# Altium integrated library Linear Technology Power Management Power-Over-Ethernet (PoE) Interface Controllers.IntLib: 174 symbols (part 16 of 16)
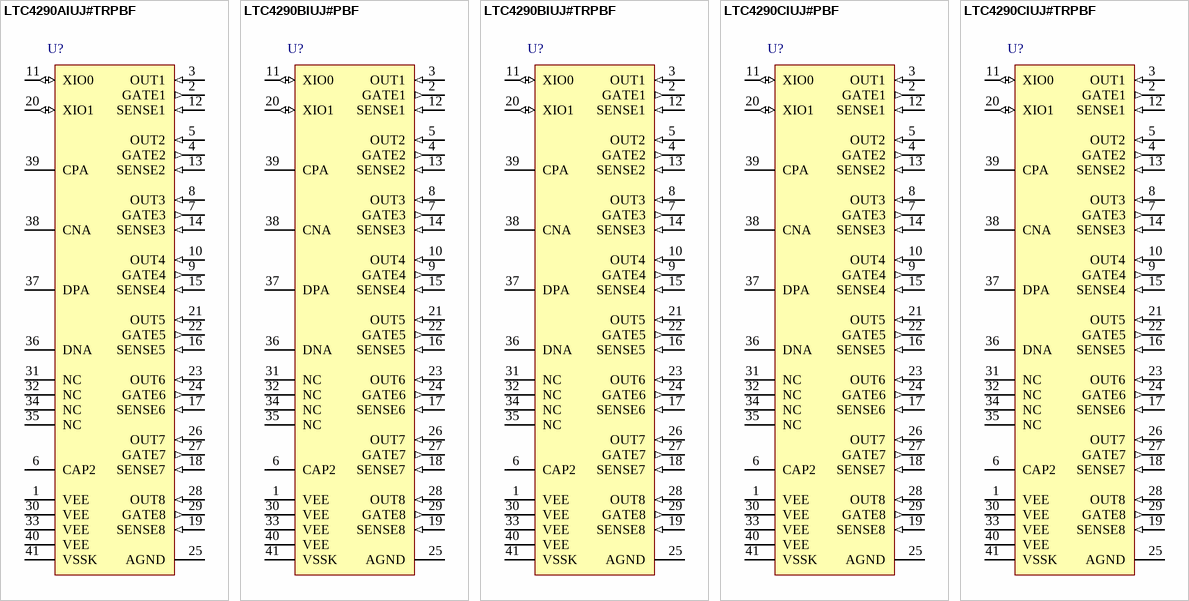
[diagram p23: symbols LTC4290AIUJ#TRPBF to LTC4290CIUJ#TRPBF]

## LTC4290BIUJ#PBF
designator U?
8-Port PoE / PoE+ / LTPoE++ PSE Controller, 40-pin QFN (UJ-40), -40 to 85 degC, Pb-Free; Manufacturer: Linear Technology; PartNumber: LTC4290BIUJ#PBF; Channels(#): 8; Extended Temp: I; I2C Interface: yes; Max Power(W): 25.5; PoE Type: 1, 2; DatasheetVersion: Rev. A; PackageVersion: Rev. Ø, 06/2010; PackageReference: UJ-40; PackageDescription: 40-Pin Plastic QFN, Body 6 x 6 mm, Pitch 0.5 mm; Supplier 1: Digi-Key; Supplier Part Number 1: LTC4290BIUJ#PBF-ND; Supplier 2: Farnell; Supplier Part Number 2: 2215169; Supplier 3: Newark; Supplier Part Number 3: 44W6835; PSE/PD: PSE; RoHS: TRUE; Mounting Technology: Surface Mount; ComponentLink1Description: Manufacturer URL; ComponentLink1URL: http://www.linear.com/; ComponentLink2Description: Datasheet; ComponentLink2URL: http://cds.linear.com/docs/en/datasheet/429071fa.pdf; ComponentLink3Description: Package Specification; ComponentLink3URL: http://cds.linear.com/docs/en/packaging/QFN_40_05-08-1728.pdf
footprint LT-UJ-40_N (QFN, 40-Leads, Body 6.1x6.1mm, Pitch 0.5mm, Thermal Pad 4.42x4.42mm, IPC Medium Density)
footprint LT-UJ-40_L (QFN, 40-Leads, Body 6.1x6.1mm, Pitch 0.5mm, Thermal Pad 4.42x4.42mm, IPC High Density)
footprint LT-UJ-40_M (QFN, 40-Leads, Body 6.1x6.1mm, Pitch 0.5mm, Thermal Pad 4.42x4.42mm, IPC Low Density)
pins: 1 VEE (power) "Main PoE Supply Input. Connect to a -45V to -57V supply, relative to AGND. Voltage depends on PSE type (Type 1, Type 2 or LTPoE++).", 2 GATE1 (out) "Port 1 Gate Drive. GATE2 should be connected to the gate of the external MOSFET for port 1. When the MOSFET is turned on, the gate voltage is driven to 12V (typ) above VEE. During a current limit condition, the voltage at (See Datasheet)", 3 OUT1 (in) "Port 1 Output Voltage Monitor. OUT1 should be connected to the output port. A current limit foldback circuit limits the power dissipation in the external MOSFET by reducing the current limit threshold when the (See Datasheet)", 4 GATE2 (out) "Port 2 Gate Drive. GATE2 should be connected to the gate of the external MOSFET for port 2. When the MOSFET is turned on, the gate voltage is driven to 12V (typ) above VEE. During a current limit condition, the voltage at (See Datasheet)", 5 OUT2 (in) "Port 2 Output Voltage Monitor. OUT2 should be connected to the output port. A current limit foldback circuit limits the power dissipation in the external MOSFET by reducing the current limit threshold when the (See Datasheet)", 6 CAP2 "Analog Internal 4.3V Power Supply Bypass Capacitor. Connect 0.1uF ceramic cap to VEE.", 7 GATE3 (out) "Port 3 Gate Drive. GATE3 should be connected to the gate of the external MOSFET for port 3. When the MOSFET is turned on, the gate voltage is driven to 12V (typ) above VEE. During a current limit condition, the voltage at (See Datasheet)", 8 OUT3 (in) "Port 3 Output Voltage Monitor. OUT3 should be connected to the output port. A current limit foldback circuit limits the power dissipation in the external MOSFET by reducing the current limit threshold when the (See Datasheet)", 9 GATE4 (out) "Port 4 Gate Drive. GATE4 should be connected to the gate of the external MOSFET for port 4. When the MOSFET is turned on, the gate voltage is driven to 12V (typ) above VEE. During a current limit condition, the voltage at (See Datasheet)", 10 OUT4 (in) "Port 4 Output Voltage Monitor. OUT4 should be connected to the output port. A current limit foldback circuit limits the power dissipation in the external MOSFET by reducing the current limit threshold when the (See Datasheet)", 11 XIO0 (io) "General Purpose Digital Input Output. Logic signal between VEE and VEE + 4.3V. Internal pull up.", 12 SENSE1 (in) "Port 1 Current Sense Input. SENSE1 monitors the external MOSFET current via a 0.5ohm or 0.25ohm sense resistor between SENSE1 and VEE. Whenever the voltage across the sense resistor exceeds the overcurrent detection (See Datasheet)", 13 SENSE2 (in) "Port 2 Current Sense Input. SENSE2 monitors the external MOSFET current via a 0.5ohm or 0.25ohm sense resistor between SENSE2 and VEE. Whenever the voltage across the sense resistor exceeds the overcurrent detection (See Datasheet)", 14 SENSE3 (in) "Port 3 Current Sense Input. SENSE3 monitors the external MOSFET current via a 0.5ohm or 0.25ohm sense resistor between SENSE3 and VEE. Whenever the voltage across the sense resistor exceeds the overcurrent detection (See Datasheet)", 15 SENSE4 (in) "Port 4 Current Sense Input. SENSE4 monitors the external MOSFET current via a 0.5ohm or 0.25ohm sense resistor between SENSE4 and VEE. Whenever the voltage across the sense resistor exceeds the overcurrent detection (See Datasheet)", 16 SENSE5 (in) "Port 5 Current Sense Input. SENSE5 monitors the external MOSFET current via a 0.5ohm or 0.25ohm sense resistor between SENSE5 and VEE. Whenever the voltage across the sense resistor exceeds the overcurrent detection (See Datasheet)", 17 SENSE6 (in) "Port 6 Current Sense Input. SENSE6 monitors the external MOSFET current via a 0.5ohm or 0.25ohm sense resistor between SENSE6 and VEE. Whenever the voltage across the sense resistor exceeds the overcurrent detection (See Datasheet)", 18 SENSE7 (in) "Port 7 Current Sense Input. SENSE7 monitors the external MOSFET current via a 0.5ohm or 0.25ohm sense resistor between SENSE7 and VEE. Whenever the voltage across the sense resistor exceeds the overcurrent detection (See Datasheet)", 19 SENSE8 (in) "Port 8 Current Sense Input. SENSE8 monitors the external MOSFET current via a 0.5ohm or 0.25ohm sense resistor between SENSE8 and VEE. Whenever the voltage across the sense resistor exceeds the overcurrent detection (See Datasheet)", 20 XIO1 (io) "General Purpose Digital Input Output. Logic signal between VEE and VEE + 4.3V. Internal pull up.", 21 OUT5 (in) "Port 5 Output Voltage Monitor. OUT5 should be connected to the output port. A current limit foldback circuit limits the power dissipation in the external MOSFET by reducing the current limit threshold when the (See Datasheet)", 22 GATE5 (out) "Port 5 Gate Drive. GATE5 should be connected to the gate of the external MOSFET for port 5. When the MOSFET is turned on, the gate voltage is driven to 12V (typ) above VEE. During a current limit condition, the voltage at (See Datasheet)", 23 OUT6 (in) "Port 6 Output Voltage Monitor. OUT6 should be connected to the output port. A current limit foldback circuit limits the power dissipation in the external MOSFET by reducing the current limit threshold when the (See Datasheet)", 24 GATE6 (out) "Port 6 Gate Drive. GATE6 should be connected to the gate of the external MOSFET for port 6. When the MOSFET is turned on, the gate voltage is driven to 12V (typ) above VEE. During a current limit condition, the voltage at (See Datasheet)", 25 AGND (power) "Analog Ground. Connect AGND to the return for the VEE supply.", 26 OUT7 (in) "Port 7 Output Voltage Monitor. OUT7 should be connected to the output port. A current limit foldback circuit limits the power dissipation in the external MOSFET by reducing the current limit threshold when the (See Datasheet)", 27 GATE7 (out) "Port 7 Gate Drive. GATE7 should be connected to the gate of the external MOSFET for port 7. When the MOSFET is turned on, the gate voltage is driven to 12V (typ) above VEE. During a current limit condition, the voltage at (See Datasheet)", 28 OUT8 (in) "Port 8 Output Voltage Monitor. OUT8 should be connected to the output port. A current limit foldback circuit limits the power dissipation in the external MOSFET by reducing the current limit threshold when the (See Datasheet)", 29 GATE8 (out) "Port 8 Gate Drive. GATEn should be connected to the gate of the external MOSFET for port 8. When the MOSFET is turned on, the gate voltage is driven to 12V (typ) above VEE. During a current limit condition, the voltage at (See Datasheet)", 30 VEE (power) "Main PoE Supply Input. Connect to a -45V to -57V supply, relative to AGND. Voltage depends on PSE type (Type 1, Type 2 or LTPoE++).", 31 NC "All pins identified with “NC” or “DNC” must be left unconnected.", 32 NC "All pins identified with “NC” or “DNC” must be left unconnected.", 33 VEE (power) "Main PoE Supply Input. Connect to a -45V to -57V supply, relative to AGND. Voltage depends on PSE type (Type 1, Type 2 or LTPoE++).", 34 NC "All pins identified with “NC” or “DNC” must be left unconnected.", 35 NC "All pins identified with “NC” or “DNC” must be left unconnected.", 36 DNA "Data Transceiver Negative Input Output (Analog). Connect to DND through a data transformer", 37 DPA "Data Transceiver Positive Input Output (Analog). Connect to DPD through a data transformer.", 38 CNA "Clock Transceiver Negative Input Output (Analog). Connect to CND through a data transformer.", 39 CPA "Clock Transceiver Positive Input Output (Analog). Connect to CPD through a data transformer.", 40 VEE (power) "Main PoE Supply Input. Connect to a -45V to -57V supply, relative to AGND. Voltage depends on PSE type (Type 1, Type 2 or LTPoE++).", 41 VSSK (power) "Kelvin Sense to VEE. Connect to sense resistor common node. Do not connect directly to VEE plane. See Layout Guide."

## LTC4290BIUJ#TRPBF
designator U?
8-Port PoE / PoE+ / LTPoE++ PSE Controller, 40-pin QFN (UJ-40), -40 to 85 degC, Pb-Free, Tape and Reel; Manufacturer: Linear Technology; PartNumber: LTC4290BIUJ#TRPBF; Channels(#): 8; Extended Temp: I; I2C Interface: yes; Max Power(W): 25.5; PoE Type: 1, 2; DatasheetVersion: Rev. A; PackageVersion: Rev. Ø, 06/2010; PackageReference: UJ-40; PackageDescription: 40-Pin Plastic QFN, Body 6 x 6 mm, Pitch 0.5 mm; Supplier 1: Digi-Key; Supplier Part Number 1: LTC4290BIUJ#TRPBF-ND; Supplier 2: Newark; Supplier Part Number 2: 44W6836; Packing: Tape and Reel; PSE/PD: PSE; RoHS: TRUE; Mounting Technology: Surface Mount; ComponentLink1Description: Manufacturer URL; ComponentLink1URL: http://www.linear.com/; ComponentLink2Description: Datasheet; ComponentLink2URL: http://cds.linear.com/docs/en/datasheet/429071fa.pdf; ComponentLink3Description: Package Specification; ComponentLink3URL: http://cds.linear.com/docs/en/packaging/QFN_40_05-08-1728.pdf
footprint LT-UJ-40_N (QFN, 40-Leads, Body 6.1x6.1mm, Pitch 0.5mm, Thermal Pad 4.42x4.42mm, IPC Medium Density)
footprint LT-UJ-40_L (QFN, 40-Leads, Body 6.1x6.1mm, Pitch 0.5mm, Thermal Pad 4.42x4.42mm, IPC High Density)
footprint LT-UJ-40_M (QFN, 40-Leads, Body 6.1x6.1mm, Pitch 0.5mm, Thermal Pad 4.42x4.42mm, IPC Low Density)
pins: 1 VEE (power) "Main PoE Supply Input. Connect to a -45V to -57V supply, relative to AGND. Voltage depends on PSE type (Type 1, Type 2 or LTPoE++).", 2 GATE1 (out) "Port 1 Gate Drive. GATE2 should be connected to the gate of the external MOSFET for port 1. When the MOSFET is turned on, the gate voltage is driven to 12V (typ) above VEE. During a current limit condition, the voltage at (See Datasheet)", 3 OUT1 (in) "Port 1 Output Voltage Monitor. OUT1 should be connected to the output port. A current limit foldback circuit limits the power dissipation in the external MOSFET by reducing the current limit threshold when the (See Datasheet)", 4 GATE2 (out) "Port 2 Gate Drive. GATE2 should be connected to the gate of the external MOSFET for port 2. When the MOSFET is turned on, the gate voltage is driven to 12V (typ) above VEE. During a current limit condition, the voltage at (See Datasheet)", 5 OUT2 (in) "Port 2 Output Voltage Monitor. OUT2 should be connected to the output port. A current limit foldback circuit limits the power dissipation in the external MOSFET by reducing the current limit threshold when the (See Datasheet)", 6 CAP2 "Analog Internal 4.3V Power Supply Bypass Capacitor. Connect 0.1uF ceramic cap to VEE.", 7 GATE3 (out) "Port 3 Gate Drive. GATE3 should be connected to the gate of the external MOSFET for port 3. When the MOSFET is turned on, the gate voltage is driven to 12V (typ) above VEE. During a current limit condition, the voltage at (See Datasheet)", 8 OUT3 (in) "Port 3 Output Voltage Monitor. OUT3 should be connected to the output port. A current limit foldback circuit limits the power dissipation in the external MOSFET by reducing the current limit threshold when the (See Datasheet)", 9 GATE4 (out) "Port 4 Gate Drive. GATE4 should be connected to the gate of the external MOSFET for port 4. When the MOSFET is turned on, the gate voltage is driven to 12V (typ) above VEE. During a current limit condition, the voltage at (See Datasheet)", 10 OUT4 (in) "Port 4 Output Voltage Monitor. OUT4 should be connected to the output port. A current limit foldback circuit limits the power dissipation in the external MOSFET by reducing the current limit threshold when the (See Datasheet)", 11 XIO0 (io) "General Purpose Digital Input Output. Logic signal between VEE and VEE + 4.3V. Internal pull up.", 12 SENSE1 (in) "Port 1 Current Sense Input. SENSE1 monitors the external MOSFET current via a 0.5ohm or 0.25ohm sense resistor between SENSE1 and VEE. Whenever the voltage across the sense resistor exceeds the overcurrent detection (See Datasheet)", 13 SENSE2 (in) "Port 2 Current Sense Input. SENSE2 monitors the external MOSFET current via a 0.5ohm or 0.25ohm sense resistor between SENSE2 and VEE. Whenever the voltage across the sense resistor exceeds the overcurrent detection (See Datasheet)", 14 SENSE3 (in) "Port 3 Current Sense Input. SENSE3 monitors the external MOSFET current via a 0.5ohm or 0.25ohm sense resistor between SENSE3 and VEE. Whenever the voltage across the sense resistor exceeds the overcurrent detection (See Datasheet)", 15 SENSE4 (in) "Port 4 Current Sense Input. SENSE4 monitors the external MOSFET current via a 0.5ohm or 0.25ohm sense resistor between SENSE4 and VEE. Whenever the voltage across the sense resistor exceeds the overcurrent detection (See Datasheet)", 16 SENSE5 (in) "Port 5 Current Sense Input. SENSE5 monitors the external MOSFET current via a 0.5ohm or 0.25ohm sense resistor between SENSE5 and VEE. Whenever the voltage across the sense resistor exceeds the overcurrent detection (See Datasheet)", 17 SENSE6 (in) "Port 6 Current Sense Input. SENSE6 monitors the external MOSFET current via a 0.5ohm or 0.25ohm sense resistor between SENSE6 and VEE. Whenever the voltage across the sense resistor exceeds the overcurrent detection (See Datasheet)", 18 SENSE7 (in) "Port 7 Current Sense Input. SENSE7 monitors the external MOSFET current via a 0.5ohm or 0.25ohm sense resistor between SENSE7 and VEE. Whenever the voltage across the sense resistor exceeds the overcurrent detection (See Datasheet)", 19 SENSE8 (in) "Port 8 Current Sense Input. SENSE8 monitors the external MOSFET current via a 0.5ohm or 0.25ohm sense resistor between SENSE8 and VEE. Whenever the voltage across the sense resistor exceeds the overcurrent detection (See Datasheet)", 20 XIO1 (io) "General Purpose Digital Input Output. Logic signal between VEE and VEE + 4.3V. Internal pull up.", 21 OUT5 (in) "Port 5 Output Voltage Monitor. OUT5 should be connected to the output port. A current limit foldback circuit limits the power dissipation in the external MOSFET by reducing the current limit threshold when the (See Datasheet)", 22 GATE5 (out) "Port 5 Gate Drive. GATE5 should be connected to the gate of the external MOSFET for port 5. When the MOSFET is turned on, the gate voltage is driven to 12V (typ) above VEE. During a current limit condition, the voltage at (See Datasheet)", 23 OUT6 (in) "Port 6 Output Voltage Monitor. OUT6 should be connected to the output port. A current limit foldback circuit limits the power dissipation in the external MOSFET by reducing the current limit threshold when the (See Datasheet)", 24 GATE6 (out) "Port 6 Gate Drive. GATE6 should be connected to the gate of the external MOSFET for port 6. When the MOSFET is turned on, the gate voltage is driven to 12V (typ) above VEE. During a current limit condition, the voltage at (See Datasheet)", 25 AGND (power) "Analog Ground. Connect AGND to the return for the VEE supply.", 26 OUT7 (in) "Port 7 Output Voltage Monitor. OUT7 should be connected to the output port. A current limit foldback circuit limits the power dissipation in the external MOSFET by reducing the current limit threshold when the (See Datasheet)", 27 GATE7 (out) "Port 7 Gate Drive. GATE7 should be connected to the gate of the external MOSFET for port 7. When the MOSFET is turned on, the gate voltage is driven to 12V (typ) above VEE. During a current limit condition, the voltage at (See Datasheet)", 28 OUT8 (in) "Port 8 Output Voltage Monitor. OUT8 should be connected to the output port. A current limit foldback circuit limits the power dissipation in the external MOSFET by reducing the current limit threshold when the (See Datasheet)", 29 GATE8 (out) "Port 8 Gate Drive. GATEn should be connected to the gate of the external MOSFET for port 8. When the MOSFET is turned on, the gate voltage is driven to 12V (typ) above VEE. During a current limit condition, the voltage at (See Datasheet)", 30 VEE (power) "Main PoE Supply Input. Connect to a -45V to -57V supply, relative to AGND. Voltage depends on PSE type (Type 1, Type 2 or LTPoE++).", 31 NC "All pins identified with “NC” or “DNC” must be left unconnected.", 32 NC "All pins identified with “NC” or “DNC” must be left unconnected.", 33 VEE (power) "Main PoE Supply Input. Connect to a -45V to -57V supply, relative to AGND. Voltage depends on PSE type (Type 1, Type 2 or LTPoE++).", 34 NC "All pins identified with “NC” or “DNC” must be left unconnected.", 35 NC "All pins identified with “NC” or “DNC” must be left unconnected.", 36 DNA "Data Transceiver Negative Input Output (Analog). Connect to DND through a data transformer", 37 DPA "Data Transceiver Positive Input Output (Analog). Connect to DPD through a data transformer.", 38 CNA "Clock Transceiver Negative Input Output (Analog). Connect to CND through a data transformer.", 39 CPA "Clock Transceiver Positive Input Output (Analog). Connect to CPD through a data transformer.", 40 VEE (power) "Main PoE Supply Input. Connect to a -45V to -57V supply, relative to AGND. Voltage depends on PSE type (Type 1, Type 2 or LTPoE++).", 41 VSSK (power) "Kelvin Sense to VEE. Connect to sense resistor common node. Do not connect directly to VEE plane. See Layout Guide."

## LTC4290CIUJ#PBF
designator U?
8-Port PoE / PoE+ / LTPoE++ PSE Controller, 40-pin QFN (UJ-40), -40 to 85 degC, Pb-Free; Manufacturer: Linear Technology; PartNumber: LTC4290CIUJ#PBF; Channels(#): 8; Extended Temp: I; I2C Interface: yes; Max Power(W): 13; PoE Type: 1, 2; DatasheetVersion: Rev. A; PackageVersion: Rev. Ø, 06/2010; PackageReference: UJ-40; PackageDescription: 40-Pin Plastic QFN, Body 6 x 6 mm, Pitch 0.5 mm; Supplier 1: Digi-Key; Supplier Part Number 1: LTC4290CIUJ#PBF-ND; Supplier 2: Farnell; Supplier Part Number 2: 2322428; Supplier 3: Newark; Supplier Part Number 3: 71W8474; PSE/PD: PSE; RoHS: TRUE; Mounting Technology: Surface Mount; ComponentLink1Description: Manufacturer URL; ComponentLink1URL: http://www.linear.com/; ComponentLink2Description: Datasheet; ComponentLink2URL: http://cds.linear.com/docs/en/datasheet/429071fa.pdf; ComponentLink3Description: Package Specification; ComponentLink3URL: http://cds.linear.com/docs/en/packaging/QFN_40_05-08-1728.pdf
footprint LT-UJ-40_N (QFN, 40-Leads, Body 6.1x6.1mm, Pitch 0.5mm, Thermal Pad 4.42x4.42mm, IPC Medium Density)
footprint LT-UJ-40_L (QFN, 40-Leads, Body 6.1x6.1mm, Pitch 0.5mm, Thermal Pad 4.42x4.42mm, IPC High Density)
footprint LT-UJ-40_M (QFN, 40-Leads, Body 6.1x6.1mm, Pitch 0.5mm, Thermal Pad 4.42x4.42mm, IPC Low Density)
pins: 1 VEE (power) "Main PoE Supply Input. Connect to a -45V to -57V supply, relative to AGND. Voltage depends on PSE type (Type 1, Type 2 or LTPoE++).", 2 GATE1 (out) "Port 1 Gate Drive. GATE2 should be connected to the gate of the external MOSFET for port 1. When the MOSFET is turned on, the gate voltage is driven to 12V (typ) above VEE. During a current limit condition, the voltage at (See Datasheet)", 3 OUT1 (in) "Port 1 Output Voltage Monitor. OUT1 should be connected to the output port. A current limit foldback circuit limits the power dissipation in the external MOSFET by reducing the current limit threshold when the (See Datasheet)", 4 GATE2 (out) "Port 2 Gate Drive. GATE2 should be connected to the gate of the external MOSFET for port 2. When the MOSFET is turned on, the gate voltage is driven to 12V (typ) above VEE. During a current limit condition, the voltage at (See Datasheet)", 5 OUT2 (in) "Port 2 Output Voltage Monitor. OUT2 should be connected to the output port. A current limit foldback circuit limits the power dissipation in the external MOSFET by reducing the current limit threshold when the (See Datasheet)", 6 CAP2 "Analog Internal 4.3V Power Supply Bypass Capacitor. Connect 0.1uF ceramic cap to VEE.", 7 GATE3 (out) "Port 3 Gate Drive. GATE3 should be connected to the gate of the external MOSFET for port 3. When the MOSFET is turned on, the gate voltage is driven to 12V (typ) above VEE. During a current limit condition, the voltage at (See Datasheet)", 8 OUT3 (in) "Port 3 Output Voltage Monitor. OUT3 should be connected to the output port. A current limit foldback circuit limits the power dissipation in the external MOSFET by reducing the current limit threshold when the (See Datasheet)", 9 GATE4 (out) "Port 4 Gate Drive. GATE4 should be connected to the gate of the external MOSFET for port 4. When the MOSFET is turned on, the gate voltage is driven to 12V (typ) above VEE. During a current limit condition, the voltage at (See Datasheet)", 10 OUT4 (in) "Port 4 Output Voltage Monitor. OUT4 should be connected to the output port. A current limit foldback circuit limits the power dissipation in the external MOSFET by reducing the current limit threshold when the (See Datasheet)", 11 XIO0 (io) "General Purpose Digital Input Output. Logic signal between VEE and VEE + 4.3V. Internal pull up.", 12 SENSE1 (in) "Port 1 Current Sense Input. SENSE1 monitors the external MOSFET current via a 0.5ohm or 0.25ohm sense resistor between SENSE1 and VEE. Whenever the voltage across the sense resistor exceeds the overcurrent detection (See Datasheet)", 13 SENSE2 (in) "Port 2 Current Sense Input. SENSE2 monitors the external MOSFET current via a 0.5ohm or 0.25ohm sense resistor between SENSE2 and VEE. Whenever the voltage across the sense resistor exceeds the overcurrent detection (See Datasheet)", 14 SENSE3 (in) "Port 3 Current Sense Input. SENSE3 monitors the external MOSFET current via a 0.5ohm or 0.25ohm sense resistor between SENSE3 and VEE. Whenever the voltage across the sense resistor exceeds the overcurrent detection (See Datasheet)", 15 SENSE4 (in) "Port 4 Current Sense Input. SENSE4 monitors the external MOSFET current via a 0.5ohm or 0.25ohm sense resistor between SENSE4 and VEE. Whenever the voltage across the sense resistor exceeds the overcurrent detection (See Datasheet)", 16 SENSE5 (in) "Port 5 Current Sense Input. SENSE5 monitors the external MOSFET current via a 0.5ohm or 0.25ohm sense resistor between SENSE5 and VEE. Whenever the voltage across the sense resistor exceeds the overcurrent detection (See Datasheet)", 17 SENSE6 (in) "Port 6 Current Sense Input. SENSE6 monitors the external MOSFET current via a 0.5ohm or 0.25ohm sense resistor between SENSE6 and VEE. Whenever the voltage across the sense resistor exceeds the overcurrent detection (See Datasheet)", 18 SENSE7 (in) "Port 7 Current Sense Input. SENSE7 monitors the external MOSFET current via a 0.5ohm or 0.25ohm sense resistor between SENSE7 and VEE. Whenever the voltage across the sense resistor exceeds the overcurrent detection (See Datasheet)", 19 SENSE8 (in) "Port 8 Current Sense Input. SENSE8 monitors the external MOSFET current via a 0.5ohm or 0.25ohm sense resistor between SENSE8 and VEE. Whenever the voltage across the sense resistor exceeds the overcurrent detection (See Datasheet)", 20 XIO1 (io) "General Purpose Digital Input Output. Logic signal between VEE and VEE + 4.3V. Internal pull up.", 21 OUT5 (in) "Port 5 Output Voltage Monitor. OUT5 should be connected to the output port. A current limit foldback circuit limits the power dissipation in the external MOSFET by reducing the current limit threshold when the (See Datasheet)", 22 GATE5 (out) "Port 5 Gate Drive. GATE5 should be connected to the gate of the external MOSFET for port 5. When the MOSFET is turned on, the gate voltage is driven to 12V (typ) above VEE. During a current limit condition, the voltage at (See Datasheet)", 23 OUT6 (in) "Port 6 Output Voltage Monitor. OUT6 should be connected to the output port. A current limit foldback circuit limits the power dissipation in the external MOSFET by reducing the current limit threshold when the (See Datasheet)", 24 GATE6 (out) "Port 6 Gate Drive. GATE6 should be connected to the gate of the external MOSFET for port 6. When the MOSFET is turned on, the gate voltage is driven to 12V (typ) above VEE. During a current limit condition, the voltage at (See Datasheet)", 25 AGND (power) "Analog Ground. Connect AGND to the return for the VEE supply.", 26 OUT7 (in) "Port 7 Output Voltage Monitor. OUT7 should be connected to the output port. A current limit foldback circuit limits the power dissipation in the external MOSFET by reducing the current limit threshold when the (See Datasheet)", 27 GATE7 (out) "Port 7 Gate Drive. GATE7 should be connected to the gate of the external MOSFET for port 7. When the MOSFET is turned on, the gate voltage is driven to 12V (typ) above VEE. During a current limit condition, the voltage at (See Datasheet)", 28 OUT8 (in) "Port 8 Output Voltage Monitor. OUT8 should be connected to the output port. A current limit foldback circuit limits the power dissipation in the external MOSFET by reducing the current limit threshold when the (See Datasheet)", 29 GATE8 (out) "Port 8 Gate Drive. GATEn should be connected to the gate of the external MOSFET for port 8. When the MOSFET is turned on, the gate voltage is driven to 12V (typ) above VEE. During a current limit condition, the voltage at (See Datasheet)", 30 VEE (power) "Main PoE Supply Input. Connect to a -45V to -57V supply, relative to AGND. Voltage depends on PSE type (Type 1, Type 2 or LTPoE++).", 31 NC "All pins identified with “NC” or “DNC” must be left unconnected.", 32 NC "All pins identified with “NC” or “DNC” must be left unconnected.", 33 VEE (power) "Main PoE Supply Input. Connect to a -45V to -57V supply, relative to AGND. Voltage depends on PSE type (Type 1, Type 2 or LTPoE++).", 34 NC "All pins identified with “NC” or “DNC” must be left unconnected.", 35 NC "All pins identified with “NC” or “DNC” must be left unconnected.", 36 DNA "Data Transceiver Negative Input Output (Analog). Connect to DND through a data transformer", 37 DPA "Data Transceiver Positive Input Output (Analog). Connect to DPD through a data transformer.", 38 CNA "Clock Transceiver Negative Input Output (Analog). Connect to CND through a data transformer.", 39 CPA "Clock Transceiver Positive Input Output (Analog). Connect to CPD through a data transformer.", 40 VEE (power) "Main PoE Supply Input. Connect to a -45V to -57V supply, relative to AGND. Voltage depends on PSE type (Type 1, Type 2 or LTPoE++).", 41 VSSK (power) "Kelvin Sense to VEE. Connect to sense resistor common node. Do not connect directly to VEE plane. See Layout Guide."

## LTC4290CIUJ#TRPBF
designator U?
8-Port PoE / PoE+ / LTPoE++ PSE Controller, 40-pin QFN (UJ-40), -40 to 85 degC, Pb-Free, Tape and Reel; Manufacturer: Linear Technology; PartNumber: LTC4290CIUJ#TRPBF; Channels(#): 8; Extended Temp: I; I2C Interface: yes; Max Power(W): 13; PoE Type: 1, 2; DatasheetVersion: Rev. A; PackageVersion: Rev. Ø, 06/2010; PackageReference: UJ-40; PackageDescription: 40-Pin Plastic QFN, Body 6 x 6 mm, Pitch 0.5 mm; Supplier 1: Digi-Key; Supplier Part Number 1: LTC4290CIUJ#TRPBF-ND; Supplier 2: Newark; Supplier Part Number 2: 71W8475; Supplier 3: Newark; Supplier Part Number 3: 87W6208; Packing: Tape and Reel; PSE/PD: PSE; RoHS: TRUE; Mounting Technology: Surface Mount; ComponentLink1Description: Manufacturer URL; ComponentLink1URL: http://www.linear.com/; ComponentLink2Description: Datasheet; ComponentLink2URL: http://cds.linear.com/docs/en/datasheet/429071fa.pdf; ComponentLink3Description: Package Specification; ComponentLink3URL: http://cds.linear.com/docs/en/packaging/QFN_40_05-08-1728.pdf
footprint LT-UJ-40_N (QFN, 40-Leads, Body 6.1x6.1mm, Pitch 0.5mm, Thermal Pad 4.42x4.42mm, IPC Medium Density)
footprint LT-UJ-40_L (QFN, 40-Leads, Body 6.1x6.1mm, Pitch 0.5mm, Thermal Pad 4.42x4.42mm, IPC High Density)
footprint LT-UJ-40_M (QFN, 40-Leads, Body 6.1x6.1mm, Pitch 0.5mm, Thermal Pad 4.42x4.42mm, IPC Low Density)
pins: 1 VEE (power) "Main PoE Supply Input. Connect to a -45V to -57V supply, relative to AGND. Voltage depends on PSE type (Type 1, Type 2 or LTPoE++).", 2 GATE1 (out) "Port 1 Gate Drive. GATE2 should be connected to the gate of the external MOSFET for port 1. When the MOSFET is turned on, the gate voltage is driven to 12V (typ) above VEE. During a current limit condition, the voltage at (See Datasheet)", 3 OUT1 (in) "Port 1 Output Voltage Monitor. OUT1 should be connected to the output port. A current limit foldback circuit limits the power dissipation in the external MOSFET by reducing the current limit threshold when the (See Datasheet)", 4 GATE2 (out) "Port 2 Gate Drive. GATE2 should be connected to the gate of the external MOSFET for port 2. When the MOSFET is turned on, the gate voltage is driven to 12V (typ) above VEE. During a current limit condition, the voltage at (See Datasheet)", 5 OUT2 (in) "Port 2 Output Voltage Monitor. OUT2 should be connected to the output port. A current limit foldback circuit limits the power dissipation in the external MOSFET by reducing the current limit threshold when the (See Datasheet)", 6 CAP2 "Analog Internal 4.3V Power Supply Bypass Capacitor. Connect 0.1uF ceramic cap to VEE.", 7 GATE3 (out) "Port 3 Gate Drive. GATE3 should be connected to the gate of the external MOSFET for port 3. When the MOSFET is turned on, the gate voltage is driven to 12V (typ) above VEE. During a current limit condition, the voltage at (See Datasheet)", 8 OUT3 (in) "Port 3 Output Voltage Monitor. OUT3 should be connected to the output port. A current limit foldback circuit limits the power dissipation in the external MOSFET by reducing the current limit threshold when the (See Datasheet)", 9 GATE4 (out) "Port 4 Gate Drive. GATE4 should be connected to the gate of the external MOSFET for port 4. When the MOSFET is turned on, the gate voltage is driven to 12V (typ) above VEE. During a current limit condition, the voltage at (See Datasheet)", 10 OUT4 (in) "Port 4 Output Voltage Monitor. OUT4 should be connected to the output port. A current limit foldback circuit limits the power dissipation in the external MOSFET by reducing the current limit threshold when the (See Datasheet)", 11 XIO0 (io) "General Purpose Digital Input Output. Logic signal between VEE and VEE + 4.3V. Internal pull up.", 12 SENSE1 (in) "Port 1 Current Sense Input. SENSE1 monitors the external MOSFET current via a 0.5ohm or 0.25ohm sense resistor between SENSE1 and VEE. Whenever the voltage across the sense resistor exceeds the overcurrent detection (See Datasheet)", 13 SENSE2 (in) "Port 2 Current Sense Input. SENSE2 monitors the external MOSFET current via a 0.5ohm or 0.25ohm sense resistor between SENSE2 and VEE. Whenever the voltage across the sense resistor exceeds the overcurrent detection (See Datasheet)", 14 SENSE3 (in) "Port 3 Current Sense Input. SENSE3 monitors the external MOSFET current via a 0.5ohm or 0.25ohm sense resistor between SENSE3 and VEE. Whenever the voltage across the sense resistor exceeds the overcurrent detection (See Datasheet)", 15 SENSE4 (in) "Port 4 Current Sense Input. SENSE4 monitors the external MOSFET current via a 0.5ohm or 0.25ohm sense resistor between SENSE4 and VEE. Whenever the voltage across the sense resistor exceeds the overcurrent detection (See Datasheet)", 16 SENSE5 (in) "Port 5 Current Sense Input. SENSE5 monitors the external MOSFET current via a 0.5ohm or 0.25ohm sense resistor between SENSE5 and VEE. Whenever the voltage across the sense resistor exceeds the overcurrent detection (See Datasheet)", 17 SENSE6 (in) "Port 6 Current Sense Input. SENSE6 monitors the external MOSFET current via a 0.5ohm or 0.25ohm sense resistor between SENSE6 and VEE. Whenever the voltage across the sense resistor exceeds the overcurrent detection (See Datasheet)", 18 SENSE7 (in) "Port 7 Current Sense Input. SENSE7 monitors the external MOSFET current via a 0.5ohm or 0.25ohm sense resistor between SENSE7 and VEE. Whenever the voltage across the sense resistor exceeds the overcurrent detection (See Datasheet)", 19 SENSE8 (in) "Port 8 Current Sense Input. SENSE8 monitors the external MOSFET current via a 0.5ohm or 0.25ohm sense resistor between SENSE8 and VEE. Whenever the voltage across the sense resistor exceeds the overcurrent detection (See Datasheet)", 20 XIO1 (io) "General Purpose Digital Input Output. Logic signal between VEE and VEE + 4.3V. Internal pull up.", 21 OUT5 (in) "Port 5 Output Voltage Monitor. OUT5 should be connected to the output port. A current limit foldback circuit limits the power dissipation in the external MOSFET by reducing the current limit threshold when the (See Datasheet)", 22 GATE5 (out) "Port 5 Gate Drive. GATE5 should be connected to the gate of the external MOSFET for port 5. When the MOSFET is turned on, the gate voltage is driven to 12V (typ) above VEE. During a current limit condition, the voltage at (See Datasheet)", 23 OUT6 (in) "Port 6 Output Voltage Monitor. OUT6 should be connected to the output port. A current limit foldback circuit limits the power dissipation in the external MOSFET by reducing the current limit threshold when the (See Datasheet)", 24 GATE6 (out) "Port 6 Gate Drive. GATE6 should be connected to the gate of the external MOSFET for port 6. When the MOSFET is turned on, the gate voltage is driven to 12V (typ) above VEE. During a current limit condition, the voltage at (See Datasheet)", 25 AGND (power) "Analog Ground. Connect AGND to the return for the VEE supply.", 26 OUT7 (in) "Port 7 Output Voltage Monitor. OUT7 should be connected to the output port. A current limit foldback circuit limits the power dissipation in the external MOSFET by reducing the current limit threshold when the (See Datasheet)", 27 GATE7 (out) "Port 7 Gate Drive. GATE7 should be connected to the gate of the external MOSFET for port 7. When the MOSFET is turned on, the gate voltage is driven to 12V (typ) above VEE. During a current limit condition, the voltage at (See Datasheet)", 28 OUT8 (in) "Port 8 Output Voltage Monitor. OUT8 should be connected to the output port. A current limit foldback circuit limits the power dissipation in the external MOSFET by reducing the current limit threshold when the (See Datasheet)", 29 GATE8 (out) "Port 8 Gate Drive. GATEn should be connected to the gate of the external MOSFET for port 8. When the MOSFET is turned on, the gate voltage is driven to 12V (typ) above VEE. During a current limit condition, the voltage at (See Datasheet)", 30 VEE (power) "Main PoE Supply Input. Connect to a -45V to -57V supply, relative to AGND. Voltage depends on PSE type (Type 1, Type 2 or LTPoE++).", 31 NC "All pins identified with “NC” or “DNC” must be left unconnected.", 32 NC "All pins identified with “NC” or “DNC” must be left unconnected.", 33 VEE (power) "Main PoE Supply Input. Connect to a -45V to -57V supply, relative to AGND. Voltage depends on PSE type (Type 1, Type 2 or LTPoE++).", 34 NC "All pins identified with “NC” or “DNC” must be left unconnected.", 35 NC "All pins identified with “NC” or “DNC” must be left unconnected.", 36 DNA "Data Transceiver Negative Input Output (Analog). Connect to DND through a data transformer", 37 DPA "Data Transceiver Positive Input Output (Analog). Connect to DPD through a data transformer.", 38 CNA "Clock Transceiver Negative Input Output (Analog). Connect to CND through a data transformer.", 39 CPA "Clock Transceiver Positive Input Output (Analog). Connect to CPD through a data transformer.", 40 VEE (power) "Main PoE Supply Input. Connect to a -45V to -57V supply, relative to AGND. Voltage depends on PSE type (Type 1, Type 2 or LTPoE++).", 41 VSSK (power) "Kelvin Sense to VEE. Connect to sense resistor common node. Do not connect directly to VEE plane. See Layout Guide."